# Altium schematic symbol library Microchip Interface.SchLib: 329 symbols (part 3 of 10)
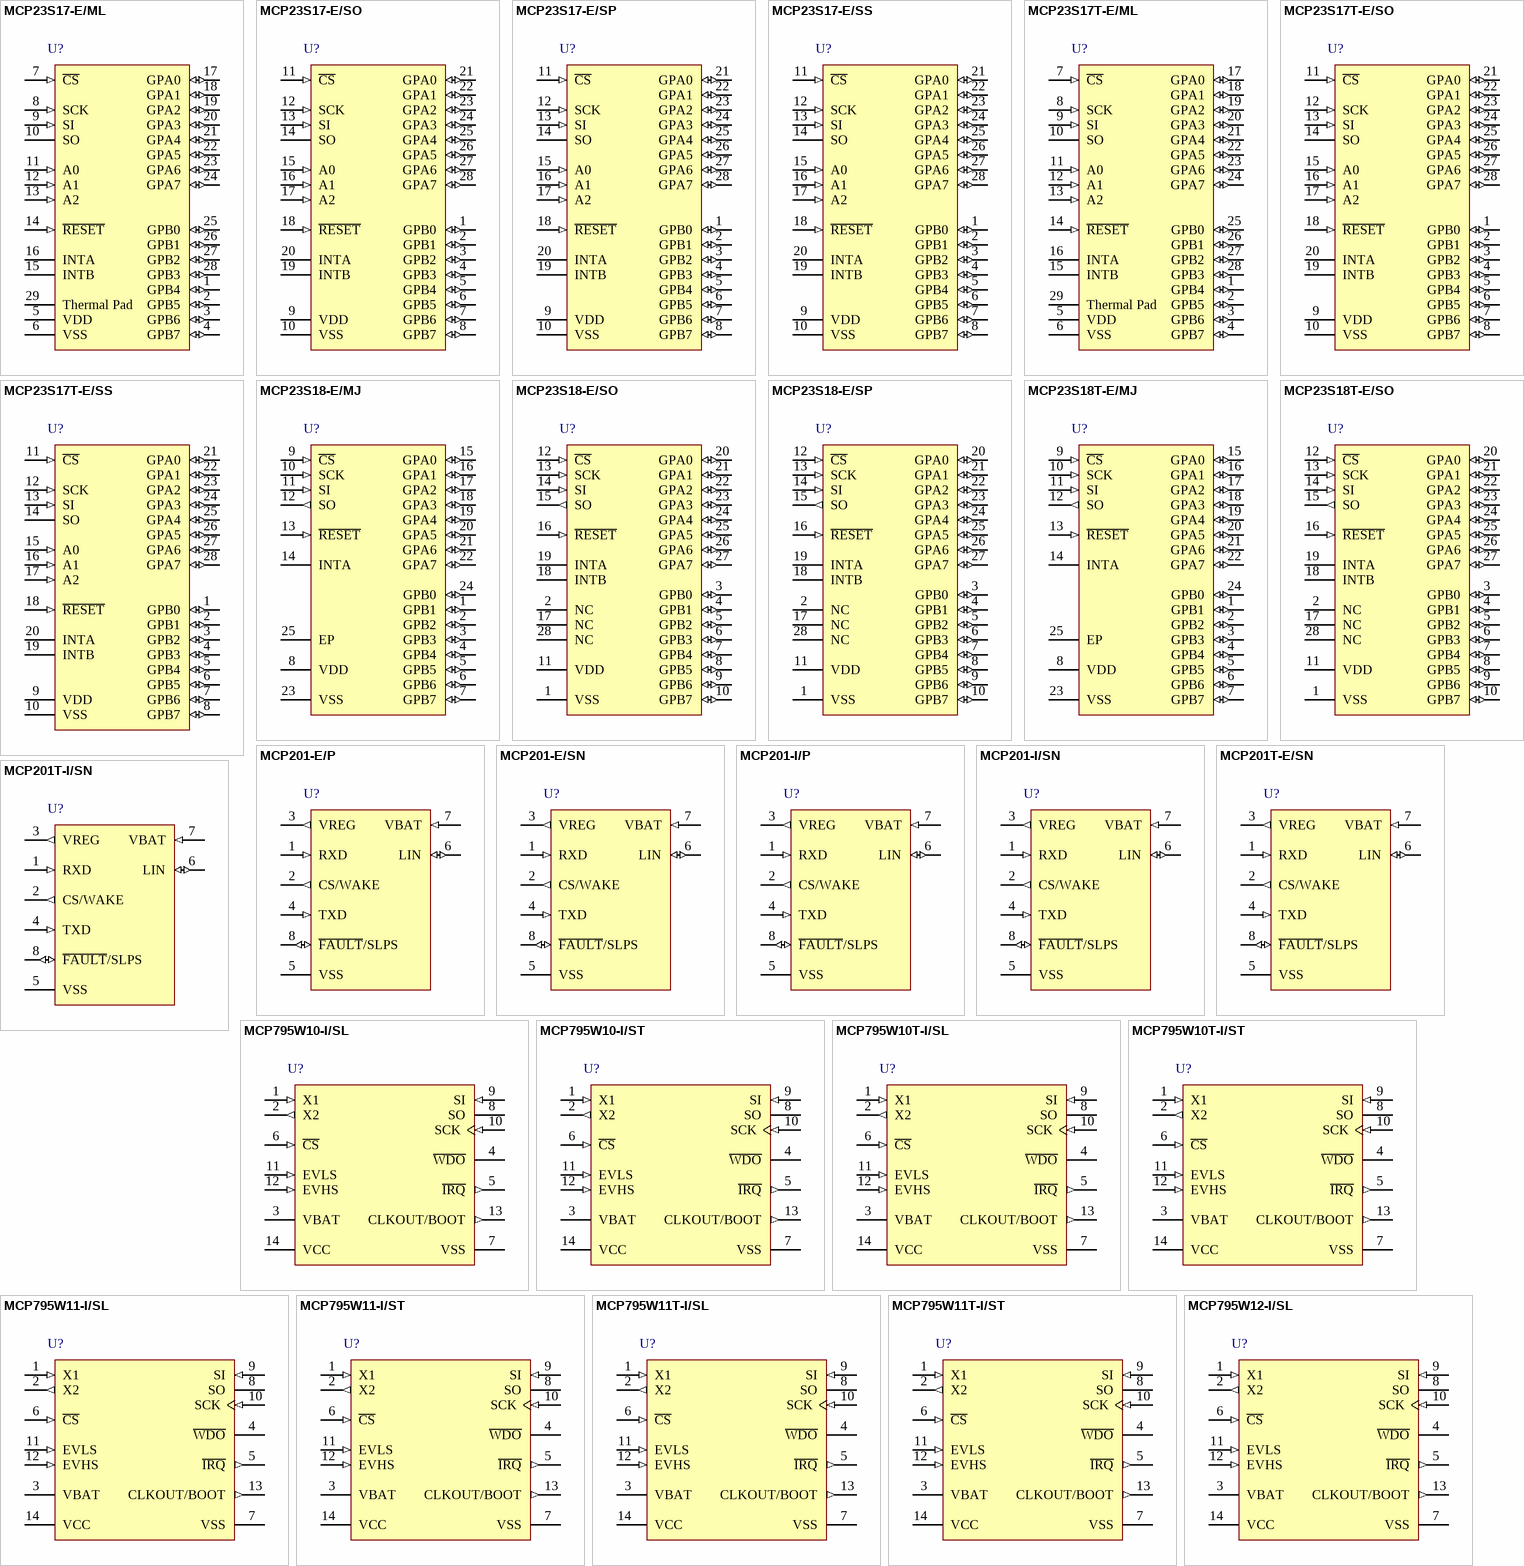
[diagram p15: symbols MCP23S17-E/ML to MCP795W12-I/SL]

## MCP795W11-I/ST
designator U?
SPI Real-Time Clock Calendar with Enhanced Features and Battery Switchover, 14-Pin TSSOP, Industrial Temperature; Manufacturer: Microchip; PartNumber: MCP795W11-I/ST; DatasheetVersion: revA, Nov-2011; PackageVersion: revBB, Aug-2009; PackageReference: TSSOP-ST14; PackageDescription: 14-Lead Plastic Thin Shrink Small Outline (ST) - 4.4mm Body [TSSOP]; Supplier 1: Digi-Key; Supplier Part Number 1: MCP795W11-I/ST-ND; Supplier 2: Mouser; Supplier Part Number 2: 579-MCP795W11-I/ST; Mounting Technology: Surface Mount; ComponentLink1Description: Manufacturer URL; ComponentLink1URL: http://www.microchip.com/; ComponentLink2Description: Datasheet; ComponentLink2URL: http://ww1.microchip.com/downloads/en/DeviceDoc/22280A.pdf; ComponentLink3Description: Package Specification; ComponentLink3URL: http://www.microchip.com/stellent/groups/techpub_sg/documents/packagingspec/en012702.pdf
footprint TSSOP-ST14_N (TSOP, 14-Leads, Body 5x4.4mm, Pitch 0.65mm, IPC Medium Density)
footprint TSSOP-ST14_L (TSOP, 14-Leads, Body 5x4.4mm, Pitch 0.65mm, IPC High Density)
footprint TSSOP-ST14_M (TSOP, 14-Leads, Body 5x4.4mm, Pitch 0.65mm, IPC Low Density)
pins: 1 X1 (in), 2 X2 (out), 3 VBAT (power), 4 ~{WDO} (oc), 5 ~{IRQ} (out), 6 ~{CS} (in), 7 VSS (power), 8 SO (hiz), 9 SI (in), 10 SCK (in), 11 EVLS (in), 12 EVHS (in), 13 CLKOUT/BOOT (out), 14 VCC (power)

## MCP795W11T-I/SL
designator U?
SPI Real-Time Clock Calendar with Enhanced Features and Battery Switchover, 14-Pin SOIC, Industrial Temperature, Tape and Reel; Manufacturer: Microchip; PartNumber: MCP795W11T-I/SL; DatasheetVersion: revA, Nov-2011; PackageVersion: revBB, Aug-2009; PackageReference: SOIC-SL14; PackageDescription: 14-Lead Plastic Small Outline (SL) - Narrow, 3.90mm Body [SOIC]; Supplier 1: Digi-Key; Supplier Part Number 1: MCP795W11T-I/SL-ND; Supplier 2: Mouser; Supplier Part Number 2: 579-MCP795W11T-I/SL; Mounting Technology: Surface Mount; Code_JEDEC: MS-012-AB; Code_IPC: SOIC127P600-14; ComponentLink1Description: Manufacturer URL; ComponentLink1URL: http://www.microchip.com/; ComponentLink2Description: Datasheet; ComponentLink2URL: http://ww1.microchip.com/downloads/en/DeviceDoc/22280A.pdf; ComponentLink3Description: Package Specification; ComponentLink3URL: http://www.microchip.com/stellent/groups/techpub_sg/documents/packagingspec/en012702.pdf
footprint SOIC-SL14_N (SOIC, 14-Leads, Body 8.7x3.9mm, Pitch 1.27mm, IPC Medium Density)
footprint SOIC-SL14_L (SOIC, 14-Leads, Body 8.7x3.9mm, Pitch 1.27mm, IPC High Density)
footprint SOIC-SL14_M (SOIC, 14-Leads, Body 8.7x3.9mm, Pitch 1.27mm, IPC Low Density)
pins: 1 X1 (in), 2 X2 (out), 3 VBAT (power), 4 ~{WDO} (oc), 5 ~{IRQ} (out), 6 ~{CS} (in), 7 VSS (power), 8 SO (hiz), 9 SI (in), 10 SCK (in), 11 EVLS (in), 12 EVHS (in), 13 CLKOUT/BOOT (out), 14 VCC (power)

## MCP795W11T-I/ST
designator U?
SPI Real-Time Clock Calendar with Enhanced Features and Battery Switchover, 14-Pin TSSOP, Industrial Temperature, Tape and Reel; Manufacturer: Microchip; PartNumber: MCP795W11T-I/ST; DatasheetVersion: revA, Nov-2011; PackageVersion: revBB, Aug-2009; PackageReference: TSSOP-ST14; PackageDescription: 14-Lead Plastic Thin Shrink Small Outline (ST) - 4.4mm Body [TSSOP]; Supplier 1: Digi-Key; Supplier Part Number 1: MCP795W11T-I/ST-ND; Supplier 2: Mouser; Supplier Part Number 2: 579-MCP795W11T-I/ST; Mounting Technology: Surface Mount; ComponentLink1Description: Manufacturer URL; ComponentLink1URL: http://www.microchip.com/; ComponentLink2Description: Datasheet; ComponentLink2URL: http://ww1.microchip.com/downloads/en/DeviceDoc/22280A.pdf; ComponentLink3Description: Package Specification; ComponentLink3URL: http://www.microchip.com/stellent/groups/techpub_sg/documents/packagingspec/en012702.pdf
footprint TSSOP-ST14_N (TSOP, 14-Leads, Body 5x4.4mm, Pitch 0.65mm, IPC Medium Density)
footprint TSSOP-ST14_L (TSOP, 14-Leads, Body 5x4.4mm, Pitch 0.65mm, IPC High Density)
footprint TSSOP-ST14_M (TSOP, 14-Leads, Body 5x4.4mm, Pitch 0.65mm, IPC Low Density)
pins: 1 X1 (in), 2 X2 (out), 3 VBAT (power), 4 ~{WDO} (oc), 5 ~{IRQ} (out), 6 ~{CS} (in), 7 VSS (power), 8 SO (hiz), 9 SI (in), 10 SCK (in), 11 EVLS (in), 12 EVHS (in), 13 CLKOUT/BOOT (out), 14 VCC (power)

## MCP795W12-I/SL
designator U?
SPI Real-Time Clock Calendar with Enhanced Features and Battery Switchover, 14-Pin SOIC, Industrial Temperature; Manufacturer: Microchip; PartNumber: MCP795W12-I/SL; DatasheetVersion: revA, Nov-2011; PackageVersion: revBB, Aug-2009; PackageReference: SOIC-SL14; PackageDescription: 14-Lead Plastic Small Outline (SL) - Narrow, 3.90mm Body [SOIC]; Supplier 1: Digi-Key; Supplier Part Number 1: MCP795W12-I/SL-ND; Supplier 2: Newark; Supplier Part Number 2: 47T5330; Supplier 3: Mouser; Supplier Part Number 3: 579-MCP795W12-I/SL; Mounting Technology: Surface Mount; Code_JEDEC: MS-012-AB; Code_IPC: SOIC127P600-14; ComponentLink1Description: Manufacturer URL; ComponentLink1URL: http://www.microchip.com/; ComponentLink2Description: Datasheet; ComponentLink2URL: http://ww1.microchip.com/downloads/en/DeviceDoc/22280A.pdf; ComponentLink3Description: Package Specification; ComponentLink3URL: http://www.microchip.com/stellent/groups/techpub_sg/documents/packagingspec/en012702.pdf
footprint SOIC-SL14_N (SOIC, 14-Leads, Body 8.7x3.9mm, Pitch 1.27mm, IPC Medium Density)
footprint SOIC-SL14_L (SOIC, 14-Leads, Body 8.7x3.9mm, Pitch 1.27mm, IPC High Density)
footprint SOIC-SL14_M (SOIC, 14-Leads, Body 8.7x3.9mm, Pitch 1.27mm, IPC Low Density)
pins: 1 X1 (in), 2 X2 (out), 3 VBAT (power), 4 ~{WDO} (oc), 5 ~{IRQ} (out), 6 ~{CS} (in), 7 VSS (power), 8 SO (hiz), 9 SI (in), 10 SCK (in), 11 EVLS (in), 12 EVHS (in), 13 CLKOUT/BOOT (out), 14 VCC (power)

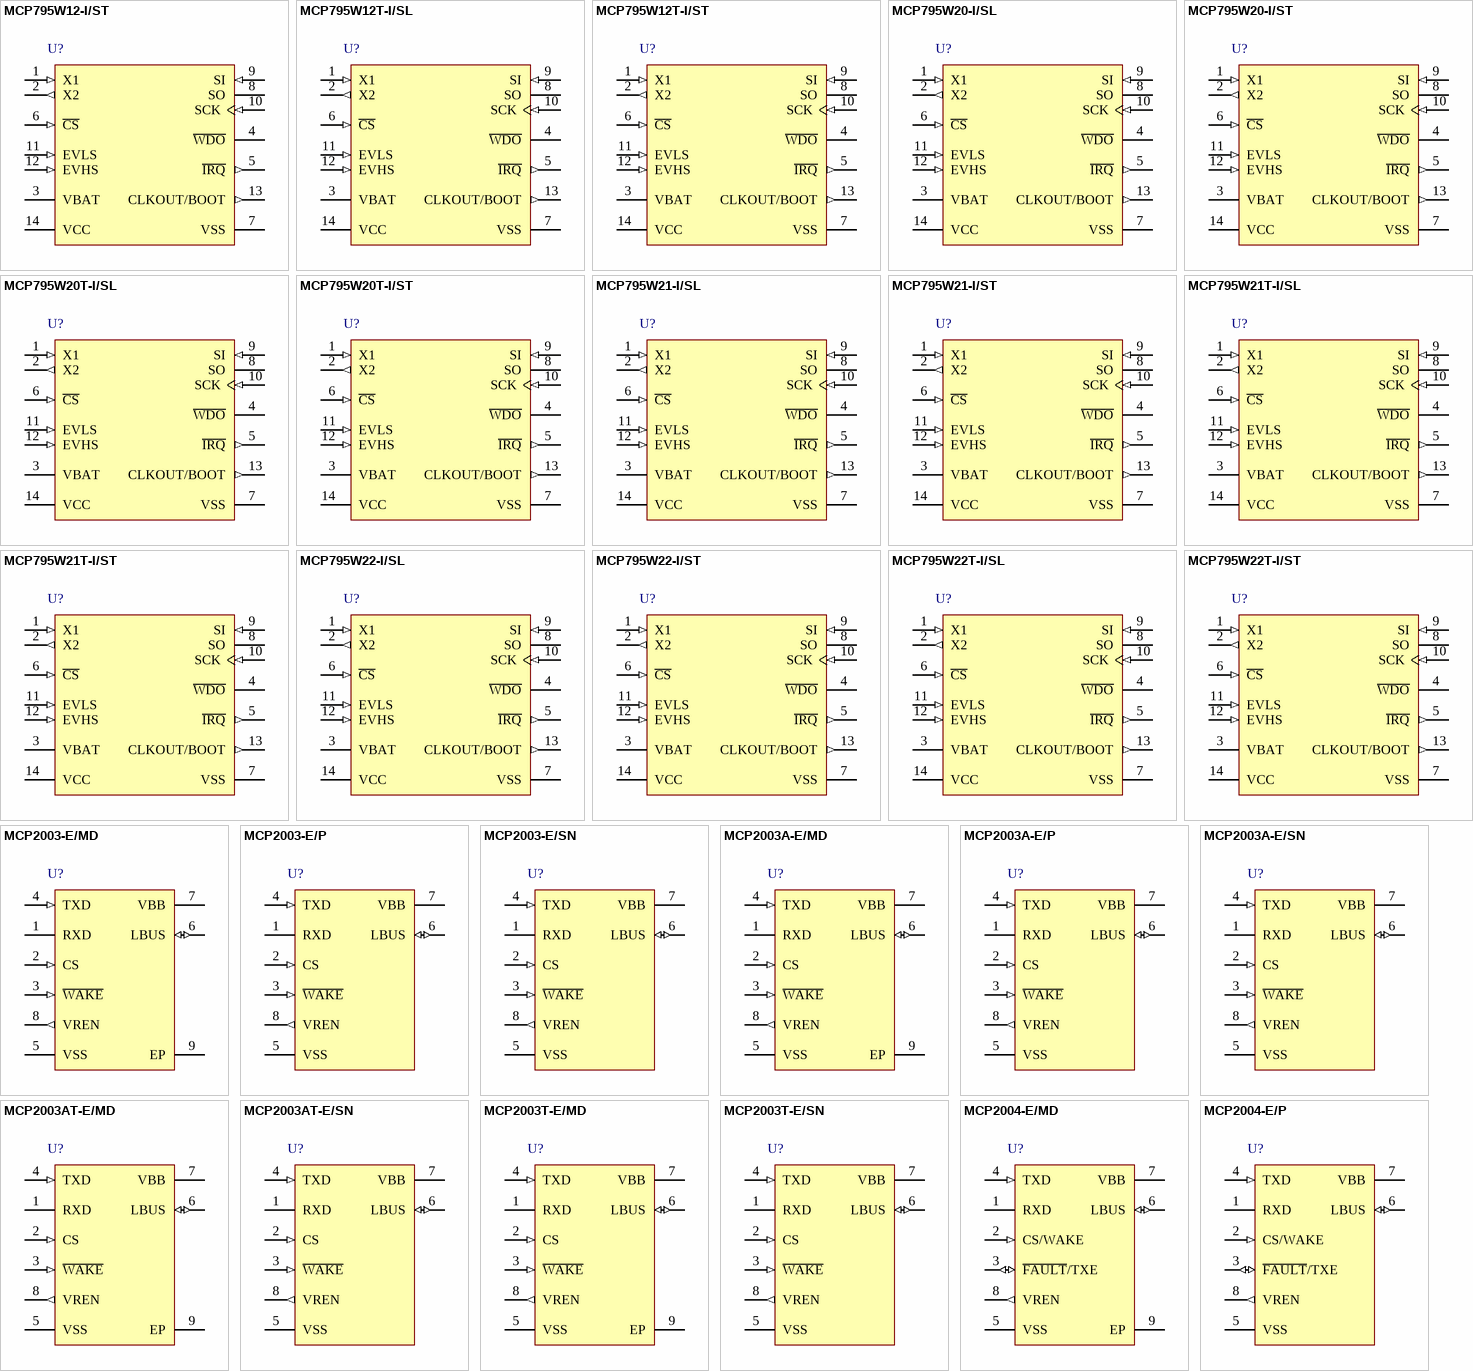
[diagram p4: symbols MCP795W12-I/ST to MCP2004-E/P]

## MCP795W12-I/ST
designator U?
SPI Real-Time Clock Calendar with Enhanced Features and Battery Switchover, 14-Pin TSSOP, Industrial Temperature; Manufacturer: Microchip; PartNumber: MCP795W12-I/ST; DatasheetVersion: revA, Nov-2011; PackageVersion: revBB, Aug-2009; PackageReference: TSSOP-ST14; PackageDescription: 14-Lead Plastic Thin Shrink Small Outline (ST) - 4.4mm Body [TSSOP]; Supplier 1: Digi-Key; Supplier Part Number 1: MCP795W12-I/ST-ND; Supplier 2: Mouser; Supplier Part Number 2: 579-MCP795W12-I/ST; Mounting Technology: Surface Mount; ComponentLink1Description: Manufacturer URL; ComponentLink1URL: http://www.microchip.com/; ComponentLink2Description: Datasheet; ComponentLink2URL: http://ww1.microchip.com/downloads/en/DeviceDoc/22280A.pdf; ComponentLink3Description: Package Specification; ComponentLink3URL: http://www.microchip.com/stellent/groups/techpub_sg/documents/packagingspec/en012702.pdf
footprint TSSOP-ST14_N (TSOP, 14-Leads, Body 5x4.4mm, Pitch 0.65mm, IPC Medium Density)
footprint TSSOP-ST14_L (TSOP, 14-Leads, Body 5x4.4mm, Pitch 0.65mm, IPC High Density)
footprint TSSOP-ST14_M (TSOP, 14-Leads, Body 5x4.4mm, Pitch 0.65mm, IPC Low Density)
pins: 1 X1 (in), 2 X2 (out), 3 VBAT (power), 4 ~{WDO} (oc), 5 ~{IRQ} (out), 6 ~{CS} (in), 7 VSS (power), 8 SO (hiz), 9 SI (in), 10 SCK (in), 11 EVLS (in), 12 EVHS (in), 13 CLKOUT/BOOT (out), 14 VCC (power)

## MCP795W12T-I/SL
designator U?
SPI Real-Time Clock Calendar with Enhanced Features and Battery Switchover, 14-Pin SOIC, Industrial Temperature, Tape and Reel; Manufacturer: Microchip; PartNumber: MCP795W12T-I/SL; DatasheetVersion: revA, Nov-2011; PackageVersion: revBB, Aug-2009; PackageReference: SOIC-SL14; PackageDescription: 14-Lead Plastic Small Outline (SL) - Narrow, 3.90mm Body [SOIC]; Supplier 1: Digi-Key; Supplier Part Number 1: MCP795W12T-I/SL-ND; Supplier 2: Mouser; Supplier Part Number 2: 579-MCP795W12T-I/SL; Mounting Technology: Surface Mount; Code_JEDEC: MS-012-AB; Code_IPC: SOIC127P600-14; ComponentLink1Description: Manufacturer URL; ComponentLink1URL: http://www.microchip.com/; ComponentLink2Description: Datasheet; ComponentLink2URL: http://ww1.microchip.com/downloads/en/DeviceDoc/22280A.pdf; ComponentLink3Description: Package Specification; ComponentLink3URL: http://www.microchip.com/stellent/groups/techpub_sg/documents/packagingspec/en012702.pdf
footprint SOIC-SL14_N (SOIC, 14-Leads, Body 8.7x3.9mm, Pitch 1.27mm, IPC Medium Density)
footprint SOIC-SL14_L (SOIC, 14-Leads, Body 8.7x3.9mm, Pitch 1.27mm, IPC High Density)
footprint SOIC-SL14_M (SOIC, 14-Leads, Body 8.7x3.9mm, Pitch 1.27mm, IPC Low Density)
pins: 1 X1 (in), 2 X2 (out), 3 VBAT (power), 4 ~{WDO} (oc), 5 ~{IRQ} (out), 6 ~{CS} (in), 7 VSS (power), 8 SO (hiz), 9 SI (in), 10 SCK (in), 11 EVLS (in), 12 EVHS (in), 13 CLKOUT/BOOT (out), 14 VCC (power)

## MCP795W12T-I/ST
designator U?
SPI Real-Time Clock Calendar with Enhanced Features and Battery Switchover, 14-Pin TSSOP, Industrial Temperature, Tape and Reel; Manufacturer: Microchip; PartNumber: MCP795W12T-I/ST; DatasheetVersion: revA, Nov-2011; PackageVersion: revBB, Aug-2009; PackageReference: TSSOP-ST14; PackageDescription: 14-Lead Plastic Thin Shrink Small Outline (ST) - 4.4mm Body [TSSOP]; Supplier 1: Digi-Key; Supplier Part Number 1: MCP795W12T-I/ST-ND; Supplier 2: Mouser; Supplier Part Number 2: 579-MCP795W12T-I/ST; Mounting Technology: Surface Mount; ComponentLink1Description: Manufacturer URL; ComponentLink1URL: http://www.microchip.com/; ComponentLink2Description: Datasheet; ComponentLink2URL: http://ww1.microchip.com/downloads/en/DeviceDoc/22280A.pdf; ComponentLink3Description: Package Specification; ComponentLink3URL: http://www.microchip.com/stellent/groups/techpub_sg/documents/packagingspec/en012702.pdf
footprint TSSOP-ST14_N (TSOP, 14-Leads, Body 5x4.4mm, Pitch 0.65mm, IPC Medium Density)
footprint TSSOP-ST14_L (TSOP, 14-Leads, Body 5x4.4mm, Pitch 0.65mm, IPC High Density)
footprint TSSOP-ST14_M (TSOP, 14-Leads, Body 5x4.4mm, Pitch 0.65mm, IPC Low Density)
pins: 1 X1 (in), 2 X2 (out), 3 VBAT (power), 4 ~{WDO} (oc), 5 ~{IRQ} (out), 6 ~{CS} (in), 7 VSS (power), 8 SO (hiz), 9 SI (in), 10 SCK (in), 11 EVLS (in), 12 EVHS (in), 13 CLKOUT/BOOT (out), 14 VCC (power)

## MCP795W20-I/SL
designator U?
SPI Real-Time Clock Calendar with Enhanced Features and Battery Switchover, 14-Pin SOIC, Industrial Temperature; Manufacturer: Microchip; PartNumber: MCP795W20-I/SL; DatasheetVersion: revA, Nov-2011; PackageVersion: revBB, Aug-2009; PackageReference: SOIC-SL14; PackageDescription: 14-Lead Plastic Small Outline (SL) - Narrow, 3.90mm Body [SOIC]; Supplier 1: Digi-Key; Supplier Part Number 1: MCP795W20-I/SL-ND; Supplier 2: Mouser; Supplier Part Number 2: 579-MCP795W20-I/SL; Mounting Technology: Surface Mount; Code_JEDEC: MS-012-AB; Code_IPC: SOIC127P600-14; ComponentLink1Description: Manufacturer URL; ComponentLink1URL: http://www.microchip.com/; ComponentLink2Description: Datasheet; ComponentLink2URL: http://ww1.microchip.com/downloads/en/DeviceDoc/22280A.pdf; ComponentLink3Description: Package Specification; ComponentLink3URL: http://www.microchip.com/stellent/groups/techpub_sg/documents/packagingspec/en012702.pdf
footprint SOIC-SL14_N (SOIC, 14-Leads, Body 8.7x3.9mm, Pitch 1.27mm, IPC Medium Density)
footprint SOIC-SL14_L (SOIC, 14-Leads, Body 8.7x3.9mm, Pitch 1.27mm, IPC High Density)
footprint SOIC-SL14_M (SOIC, 14-Leads, Body 8.7x3.9mm, Pitch 1.27mm, IPC Low Density)
pins: 1 X1 (in), 2 X2 (out), 3 VBAT (power), 4 ~{WDO} (oc), 5 ~{IRQ} (out), 6 ~{CS} (in), 7 VSS (power), 8 SO (hiz), 9 SI (in), 10 SCK (in), 11 EVLS (in), 12 EVHS (in), 13 CLKOUT/BOOT (out), 14 VCC (power)

## MCP795W20-I/ST
designator U?
SPI Real-Time Clock Calendar with Enhanced Features and Battery Switchover, 14-Pin TSSOP, Industrial Temperature; Manufacturer: Microchip; PartNumber: MCP795W20-I/ST; DatasheetVersion: revA, Nov-2011; PackageVersion: revBB, Aug-2009; PackageReference: TSSOP-ST14; PackageDescription: 14-Lead Plastic Thin Shrink Small Outline (ST) - 4.4mm Body [TSSOP]; Supplier 1: Digi-Key; Supplier Part Number 1: MCP795W20-I/ST-ND; Supplier 2: Newark; Supplier Part Number 2: 47T5335; Supplier 3: Mouser; Supplier Part Number 3: 579-MCP795W20-I/ST; Mounting Technology: Surface Mount; ComponentLink1Description: Manufacturer URL; ComponentLink1URL: http://www.microchip.com/; ComponentLink2Description: Datasheet; ComponentLink2URL: http://ww1.microchip.com/downloads/en/DeviceDoc/22280A.pdf; ComponentLink3Description: Package Specification; ComponentLink3URL: http://www.microchip.com/stellent/groups/techpub_sg/documents/packagingspec/en012702.pdf
footprint TSSOP-ST14_N (TSOP, 14-Leads, Body 5x4.4mm, Pitch 0.65mm, IPC Medium Density)
footprint TSSOP-ST14_L (TSOP, 14-Leads, Body 5x4.4mm, Pitch 0.65mm, IPC High Density)
footprint TSSOP-ST14_M (TSOP, 14-Leads, Body 5x4.4mm, Pitch 0.65mm, IPC Low Density)
pins: 1 X1 (in), 2 X2 (out), 3 VBAT (power), 4 ~{WDO} (oc), 5 ~{IRQ} (out), 6 ~{CS} (in), 7 VSS (power), 8 SO (hiz), 9 SI (in), 10 SCK (in), 11 EVLS (in), 12 EVHS (in), 13 CLKOUT/BOOT (out), 14 VCC (power)

## MCP795W20T-I/SL
designator U?
SPI Real-Time Clock Calendar with Enhanced Features and Battery Switchover, 14-Pin SOIC, Industrial Temperature, Tape and Reel; Manufacturer: Microchip; PartNumber: MCP795W20T-I/SL; DatasheetVersion: revA, Nov-2011; PackageVersion: revBB, Aug-2009; PackageReference: SOIC-SL14; PackageDescription: 14-Lead Plastic Small Outline (SL) - Narrow, 3.90mm Body [SOIC]; Supplier 1: Digi-Key; Supplier Part Number 1: MCP795W20T-I/SL-ND; Supplier 2: Mouser; Supplier Part Number 2: 579-MCP795W20T-I/SL; Mounting Technology: Surface Mount; Code_JEDEC: MS-012-AB; Code_IPC: SOIC127P600-14; ComponentLink1Description: Manufacturer URL; ComponentLink1URL: http://www.microchip.com/; ComponentLink2Description: Datasheet; ComponentLink2URL: http://ww1.microchip.com/downloads/en/DeviceDoc/22280A.pdf; ComponentLink3Description: Package Specification; ComponentLink3URL: http://www.microchip.com/stellent/groups/techpub_sg/documents/packagingspec/en012702.pdf
footprint SOIC-SL14_N (SOIC, 14-Leads, Body 8.7x3.9mm, Pitch 1.27mm, IPC Medium Density)
footprint SOIC-SL14_L (SOIC, 14-Leads, Body 8.7x3.9mm, Pitch 1.27mm, IPC High Density)
footprint SOIC-SL14_M (SOIC, 14-Leads, Body 8.7x3.9mm, Pitch 1.27mm, IPC Low Density)
pins: 1 X1 (in), 2 X2 (out), 3 VBAT (power), 4 ~{WDO} (oc), 5 ~{IRQ} (out), 6 ~{CS} (in), 7 VSS (power), 8 SO (hiz), 9 SI (in), 10 SCK (in), 11 EVLS (in), 12 EVHS (in), 13 CLKOUT/BOOT (out), 14 VCC (power)

## MCP795W20T-I/ST
designator U?
SPI Real-Time Clock Calendar with Enhanced Features and Battery Switchover, 14-Pin TSSOP, Industrial Temperature, Tape and Reel; Manufacturer: Microchip; PartNumber: MCP795W20T-I/ST; DatasheetVersion: revA, Nov-2011; PackageVersion: revBB, Aug-2009; PackageReference: TSSOP-ST14; PackageDescription: 14-Lead Plastic Thin Shrink Small Outline (ST) - 4.4mm Body [TSSOP]; Supplier 1: Digi-Key; Supplier Part Number 1: MCP795W20T-I/ST-ND; Supplier 2: Mouser; Supplier Part Number 2: 579-MCP795W20T-I/ST; Mounting Technology: Surface Mount; ComponentLink1Description: Manufacturer URL; ComponentLink1URL: http://www.microchip.com/; ComponentLink2Description: Datasheet; ComponentLink2URL: http://ww1.microchip.com/downloads/en/DeviceDoc/22280A.pdf; ComponentLink3Description: Package Specification; ComponentLink3URL: http://www.microchip.com/stellent/groups/techpub_sg/documents/packagingspec/en012702.pdf
footprint TSSOP-ST14_N (TSOP, 14-Leads, Body 5x4.4mm, Pitch 0.65mm, IPC Medium Density)
footprint TSSOP-ST14_L (TSOP, 14-Leads, Body 5x4.4mm, Pitch 0.65mm, IPC High Density)
footprint TSSOP-ST14_M (TSOP, 14-Leads, Body 5x4.4mm, Pitch 0.65mm, IPC Low Density)
pins: 1 X1 (in), 2 X2 (out), 3 VBAT (power), 4 ~{WDO} (oc), 5 ~{IRQ} (out), 6 ~{CS} (in), 7 VSS (power), 8 SO (hiz), 9 SI (in), 10 SCK (in), 11 EVLS (in), 12 EVHS (in), 13 CLKOUT/BOOT (out), 14 VCC (power)

## MCP795W21-I/SL
designator U?
SPI Real-Time Clock Calendar with Enhanced Features and Battery Switchover, 14-Pin SOIC, Industrial Temperature; Manufacturer: Microchip; PartNumber: MCP795W21-I/SL; DatasheetVersion: revA, Nov-2011; PackageVersion: revBB, Aug-2009; PackageReference: SOIC-SL14; PackageDescription: 14-Lead Plastic Small Outline (SL) - Narrow, 3.90mm Body [SOIC]; Supplier 1: Digi-Key; Supplier Part Number 1: MCP795W21-I/SL-ND; Supplier 2: Mouser; Supplier Part Number 2: 579-MCP795W21-I/SL; Mounting Technology: Surface Mount; Code_JEDEC: MS-012-AB; Code_IPC: SOIC127P600-14; ComponentLink1Description: Manufacturer URL; ComponentLink1URL: http://www.microchip.com/; ComponentLink2Description: Datasheet; ComponentLink2URL: http://ww1.microchip.com/downloads/en/DeviceDoc/22280A.pdf; ComponentLink3Description: Package Specification; ComponentLink3URL: http://www.microchip.com/stellent/groups/techpub_sg/documents/packagingspec/en012702.pdf
footprint SOIC-SL14_N (SOIC, 14-Leads, Body 8.7x3.9mm, Pitch 1.27mm, IPC Medium Density)
footprint SOIC-SL14_L (SOIC, 14-Leads, Body 8.7x3.9mm, Pitch 1.27mm, IPC High Density)
footprint SOIC-SL14_M (SOIC, 14-Leads, Body 8.7x3.9mm, Pitch 1.27mm, IPC Low Density)
pins: 1 X1 (in), 2 X2 (out), 3 VBAT (power), 4 ~{WDO} (oc), 5 ~{IRQ} (out), 6 ~{CS} (in), 7 VSS (power), 8 SO (hiz), 9 SI (in), 10 SCK (in), 11 EVLS (in), 12 EVHS (in), 13 CLKOUT/BOOT (out), 14 VCC (power)

## MCP795W21-I/ST
designator U?
SPI Real-Time Clock Calendar with Enhanced Features and Battery Switchover, 14-Pin TSSOP, Industrial Temperature; Manufacturer: Microchip; PartNumber: MCP795W21-I/ST; DatasheetVersion: revA, Nov-2011; PackageVersion: revBB, Aug-2009; PackageReference: TSSOP-ST14; PackageDescription: 14-Lead Plastic Thin Shrink Small Outline (ST) - 4.4mm Body [TSSOP]; Supplier 1: Digi-Key; Supplier Part Number 1: MCP795W21-I/ST-ND; Supplier 2: Mouser; Supplier Part Number 2: 579-MCP795W21-I/ST; Mounting Technology: Surface Mount; ComponentLink1Description: Manufacturer URL; ComponentLink1URL: http://www.microchip.com/; ComponentLink2Description: Datasheet; ComponentLink2URL: http://ww1.microchip.com/downloads/en/DeviceDoc/22280A.pdf; ComponentLink3Description: Package Specification; ComponentLink3URL: http://www.microchip.com/stellent/groups/techpub_sg/documents/packagingspec/en012702.pdf
footprint TSSOP-ST14_N (TSOP, 14-Leads, Body 5x4.4mm, Pitch 0.65mm, IPC Medium Density)
footprint TSSOP-ST14_L (TSOP, 14-Leads, Body 5x4.4mm, Pitch 0.65mm, IPC High Density)
footprint TSSOP-ST14_M (TSOP, 14-Leads, Body 5x4.4mm, Pitch 0.65mm, IPC Low Density)
pins: 1 X1 (in), 2 X2 (out), 3 VBAT (power), 4 ~{WDO} (oc), 5 ~{IRQ} (out), 6 ~{CS} (in), 7 VSS (power), 8 SO (hiz), 9 SI (in), 10 SCK (in), 11 EVLS (in), 12 EVHS (in), 13 CLKOUT/BOOT (out), 14 VCC (power)

## MCP795W21T-I/SL
designator U?
SPI Real-Time Clock Calendar with Enhanced Features and Battery Switchover, 14-Pin SOIC, Industrial Temperature, Tape and Reel; Manufacturer: Microchip; PartNumber: MCP795W21T-I/SL; DatasheetVersion: revA, Nov-2011; PackageVersion: revBB, Aug-2009; PackageReference: SOIC-SL14; PackageDescription: 14-Lead Plastic Small Outline (SL) - Narrow, 3.90mm Body [SOIC]; Supplier 1: Digi-Key; Supplier Part Number 1: MCP795W21T-I/SL-ND; Supplier 2: Mouser; Supplier Part Number 2: 579-MCP795W21T-I/SL; Mounting Technology: Surface Mount; Code_JEDEC: MS-012-AB; Code_IPC: SOIC127P600-14; ComponentLink1Description: Manufacturer URL; ComponentLink1URL: http://www.microchip.com/; ComponentLink2Description: Datasheet; ComponentLink2URL: http://ww1.microchip.com/downloads/en/DeviceDoc/22280A.pdf; ComponentLink3Description: Package Specification; ComponentLink3URL: http://www.microchip.com/stellent/groups/techpub_sg/documents/packagingspec/en012702.pdf
footprint SOIC-SL14_N (SOIC, 14-Leads, Body 8.7x3.9mm, Pitch 1.27mm, IPC Medium Density)
footprint SOIC-SL14_L (SOIC, 14-Leads, Body 8.7x3.9mm, Pitch 1.27mm, IPC High Density)
footprint SOIC-SL14_M (SOIC, 14-Leads, Body 8.7x3.9mm, Pitch 1.27mm, IPC Low Density)
pins: 1 X1 (in), 2 X2 (out), 3 VBAT (power), 4 ~{WDO} (oc), 5 ~{IRQ} (out), 6 ~{CS} (in), 7 VSS (power), 8 SO (hiz), 9 SI (in), 10 SCK (in), 11 EVLS (in), 12 EVHS (in), 13 CLKOUT/BOOT (out), 14 VCC (power)

## MCP795W21T-I/ST
designator U?
SPI Real-Time Clock Calendar with Enhanced Features and Battery Switchover, 14-Pin TSSOP, Industrial Temperature, Tape and Reel; Manufacturer: Microchip; PartNumber: MCP795W21T-I/ST; DatasheetVersion: revA, Nov-2011; PackageVersion: revBB, Aug-2009; PackageReference: TSSOP-ST14; PackageDescription: 14-Lead Plastic Thin Shrink Small Outline (ST) - 4.4mm Body [TSSOP]; Supplier 1: Digi-Key; Supplier Part Number 1: MCP795W21T-I/ST-ND; Supplier 2: Mouser; Supplier Part Number 2: 579-MCP795W21T-I/ST; Mounting Technology: Surface Mount; ComponentLink1Description: Manufacturer URL; ComponentLink1URL: http://www.microchip.com/; ComponentLink2Description: Datasheet; ComponentLink2URL: http://ww1.microchip.com/downloads/en/DeviceDoc/22280A.pdf; ComponentLink3Description: Package Specification; ComponentLink3URL: http://www.microchip.com/stellent/groups/techpub_sg/documents/packagingspec/en012702.pdf
footprint TSSOP-ST14_N (TSOP, 14-Leads, Body 5x4.4mm, Pitch 0.65mm, IPC Medium Density)
footprint TSSOP-ST14_L (TSOP, 14-Leads, Body 5x4.4mm, Pitch 0.65mm, IPC High Density)
footprint TSSOP-ST14_M (TSOP, 14-Leads, Body 5x4.4mm, Pitch 0.65mm, IPC Low Density)
pins: 1 X1 (in), 2 X2 (out), 3 VBAT (power), 4 ~{WDO} (oc), 5 ~{IRQ} (out), 6 ~{CS} (in), 7 VSS (power), 8 SO (hiz), 9 SI (in), 10 SCK (in), 11 EVLS (in), 12 EVHS (in), 13 CLKOUT/BOOT (out), 14 VCC (power)

## MCP795W22-I/SL
designator U?
SPI Real-Time Clock Calendar with Enhanced Features and Battery Switchover, 14-Pin SOIC, Industrial Temperature; Manufacturer: Microchip; PartNumber: MCP795W22-I/SL; DatasheetVersion: revA, Nov-2011; PackageVersion: revBB, Aug-2009; PackageReference: SOIC-SL14; PackageDescription: 14-Lead Plastic Small Outline (SL) - Narrow, 3.90mm Body [SOIC]; Supplier 1: Digi-Key; Supplier Part Number 1: MCP795W22-I/SL-ND; Supplier 2: Mouser; Supplier Part Number 2: 579-MCP795W22-I/SL; Mounting Technology: Surface Mount; Code_JEDEC: MS-012-AB; Code_IPC: SOIC127P600-14; ComponentLink1Description: Manufacturer URL; ComponentLink1URL: http://www.microchip.com/; ComponentLink2Description: Datasheet; ComponentLink2URL: http://ww1.microchip.com/downloads/en/DeviceDoc/22280A.pdf; ComponentLink3Description: Package Specification; ComponentLink3URL: http://www.microchip.com/stellent/groups/techpub_sg/documents/packagingspec/en012702.pdf
footprint SOIC-SL14_N (SOIC, 14-Leads, Body 8.7x3.9mm, Pitch 1.27mm, IPC Medium Density)
footprint SOIC-SL14_L (SOIC, 14-Leads, Body 8.7x3.9mm, Pitch 1.27mm, IPC High Density)
footprint SOIC-SL14_M (SOIC, 14-Leads, Body 8.7x3.9mm, Pitch 1.27mm, IPC Low Density)
pins: 1 X1 (in), 2 X2 (out), 3 VBAT (power), 4 ~{WDO} (oc), 5 ~{IRQ} (out), 6 ~{CS} (in), 7 VSS (power), 8 SO (hiz), 9 SI (in), 10 SCK (in), 11 EVLS (in), 12 EVHS (in), 13 CLKOUT/BOOT (out), 14 VCC (power)

## MCP795W22-I/ST
designator U?
SPI Real-Time Clock Calendar with Enhanced Features and Battery Switchover, 14-Pin TSSOP, Industrial Temperature; Manufacturer: Microchip; PartNumber: MCP795W22-I/ST; DatasheetVersion: revA, Nov-2011; PackageVersion: revBB, Aug-2009; PackageReference: TSSOP-ST14; PackageDescription: 14-Lead Plastic Thin Shrink Small Outline (ST) - 4.4mm Body [TSSOP]; Supplier 1: Digi-Key; Supplier Part Number 1: MCP795W22-I/ST-ND; Supplier 2: Mouser; Supplier Part Number 2: 579-MCP795W22-I/ST; Mounting Technology: Surface Mount; ComponentLink1Description: Manufacturer URL; ComponentLink1URL: http://www.microchip.com/; ComponentLink2Description: Datasheet; ComponentLink2URL: http://ww1.microchip.com/downloads/en/DeviceDoc/22280A.pdf; ComponentLink3Description: Package Specification; ComponentLink3URL: http://www.microchip.com/stellent/groups/techpub_sg/documents/packagingspec/en012702.pdf
footprint TSSOP-ST14_N (TSOP, 14-Leads, Body 5x4.4mm, Pitch 0.65mm, IPC Medium Density)
footprint TSSOP-ST14_L (TSOP, 14-Leads, Body 5x4.4mm, Pitch 0.65mm, IPC High Density)
footprint TSSOP-ST14_M (TSOP, 14-Leads, Body 5x4.4mm, Pitch 0.65mm, IPC Low Density)
pins: 1 X1 (in), 2 X2 (out), 3 VBAT (power), 4 ~{WDO} (oc), 5 ~{IRQ} (out), 6 ~{CS} (in), 7 VSS (power), 8 SO (hiz), 9 SI (in), 10 SCK (in), 11 EVLS (in), 12 EVHS (in), 13 CLKOUT/BOOT (out), 14 VCC (power)

## MCP795W22T-I/SL
designator U?
SPI Real-Time Clock Calendar with Enhanced Features and Battery Switchover, 14-Pin SOIC, Industrial Temperature, Tape and Reel; Manufacturer: Microchip; PartNumber: MCP795W22T-I/SL; DatasheetVersion: revA, Nov-2011; PackageVersion: revBB, Aug-2009; PackageReference: SOIC-SL14; PackageDescription: 14-Lead Plastic Small Outline (SL) - Narrow, 3.90mm Body [SOIC]; Supplier 1: Digi-Key; Supplier Part Number 1: MCP795W22T-I/SL-ND; Supplier 2: Mouser; Supplier Part Number 2: 579-MCP795W22T-I/SL; Mounting Technology: Surface Mount; Code_JEDEC: MS-012-AB; Code_IPC: SOIC127P600-14; ComponentLink1Description: Manufacturer URL; ComponentLink1URL: http://www.microchip.com/; ComponentLink2Description: Datasheet; ComponentLink2URL: http://ww1.microchip.com/downloads/en/DeviceDoc/22280A.pdf; ComponentLink3Description: Package Specification; ComponentLink3URL: http://www.microchip.com/stellent/groups/techpub_sg/documents/packagingspec/en012702.pdf
footprint SOIC-SL14_N (SOIC, 14-Leads, Body 8.7x3.9mm, Pitch 1.27mm, IPC Medium Density)
footprint SOIC-SL14_L (SOIC, 14-Leads, Body 8.7x3.9mm, Pitch 1.27mm, IPC High Density)
footprint SOIC-SL14_M (SOIC, 14-Leads, Body 8.7x3.9mm, Pitch 1.27mm, IPC Low Density)
pins: 1 X1 (in), 2 X2 (out), 3 VBAT (power), 4 ~{WDO} (oc), 5 ~{IRQ} (out), 6 ~{CS} (in), 7 VSS (power), 8 SO (hiz), 9 SI (in), 10 SCK (in), 11 EVLS (in), 12 EVHS (in), 13 CLKOUT/BOOT (out), 14 VCC (power)

## MCP795W22T-I/ST
designator U?
SPI Real-Time Clock Calendar with Enhanced Features and Battery Switchover, 14-Pin TSSOP, Industrial Temperature, Tape and Reel; Manufacturer: Microchip; PartNumber: MCP795W22T-I/ST; DatasheetVersion: revA, Nov-2011; PackageVersion: revBB, Aug-2009; PackageReference: TSSOP-ST14; PackageDescription: 14-Lead Plastic Thin Shrink Small Outline (ST) - 4.4mm Body [TSSOP]; Supplier 1: Digi-Key; Supplier Part Number 1: MCP795W22T-I/ST-ND; Supplier 2: Mouser; Supplier Part Number 2: 579-MCP795W22T-I/ST; Mounting Technology: Surface Mount; ComponentLink1Description: Manufacturer URL; ComponentLink1URL: http://www.microchip.com/; ComponentLink2Description: Datasheet; ComponentLink2URL: http://ww1.microchip.com/downloads/en/DeviceDoc/22280A.pdf; ComponentLink3Description: Package Specification; ComponentLink3URL: http://www.microchip.com/stellent/groups/techpub_sg/documents/packagingspec/en012702.pdf
footprint TSSOP-ST14_N (TSOP, 14-Leads, Body 5x4.4mm, Pitch 0.65mm, IPC Medium Density)
footprint TSSOP-ST14_L (TSOP, 14-Leads, Body 5x4.4mm, Pitch 0.65mm, IPC High Density)
footprint TSSOP-ST14_M (TSOP, 14-Leads, Body 5x4.4mm, Pitch 0.65mm, IPC Low Density)
pins: 1 X1 (in), 2 X2 (out), 3 VBAT (power), 4 ~{WDO} (oc), 5 ~{IRQ} (out), 6 ~{CS} (in), 7 VSS (power), 8 SO (hiz), 9 SI (in), 10 SCK (in), 11 EVLS (in), 12 EVHS (in), 13 CLKOUT/BOOT (out), 14 VCC (power)

## MCP2003-E/MD
designator U?
LIN J2602 Transceiver, 8-Pin DFN, Extended Temperature; Manufacturer: Microchip; PartNumber: MCP2003-E/MD; DatasheetVersion: revD, Dec-2011; PackageVersion: revBB, Aug-2009; PackageReference: DFN-MD8; PackageDescription: 8-Lead Plastic Dual Flat, No Lead Package (MD) - 4x4x0.9mm Body [DFN]; Supplier 1: Digi-Key; Supplier Part Number 1: MCP2003-E/MD-ND; Supplier 2: Farnell; Supplier Part Number 2: 1826238; Supplier 3: Newark; Supplier Part Number 3: 65R5491; Supplier 4: Mouser; Supplier Part Number 4: 579-MCP2003EMD; Mounting Technology: Surface Mount; ComponentLink1Description: Manufacturer URL; ComponentLink1URL: http://www.microchip.com/; ComponentLink2Description: Datasheet; ComponentLink2URL: http://ww1.microchip.com/downloads/en/DeviceDoc/22230D.pdf; ComponentLink3Description: Package Specification; ComponentLink3URL: http://www.microchip.com/stellent/groups/techpub_sg/documents/packagingspec/en012702.pdf
footprint DFN-MD8 (SON, 8-Leads, Body 4x4mm, Pitch 0.8mm, Microchip Recommended)
pins: 1 RXD (oc), 2 CS (in), 3 ~{WAKE} (in), 4 TXD (in), 5 VSS (power), 6 LBUS (io), 7 VBB (power), 8 VREN (out), 9 EP

## MCP2003-E/P
designator U?
LIN J2602 Transceiver, 8-Pin PDIP, Extended Temperature; Manufacturer: Microchip; PartNumber: MCP2003-E/P; DatasheetVersion: revD, Dec-2011; PackageVersion: revBB, Aug-2009; PackageReference: PDIP300-P8; PackageDescription: 8-Lead Plastic Dual In-Line (P) - 300 mil Body [PDIP]; Supplier 1: Digi-Key; Supplier Part Number 1: MCP2003-E/P-ND; Supplier 2: Farnell; Supplier Part Number 2: 1826236; Supplier 3: Newark; Supplier Part Number 3: 65R5492; Supplier 4: Mouser; Supplier Part Number 4: 579-MCP2003EP; Mounting Technology: Through Hole; Code_JEDEC: MS-001; ComponentLink1Description: Manufacturer URL; ComponentLink1URL: http://www.microchip.com/; ComponentLink2Description: Datasheet; ComponentLink2URL: http://ww1.microchip.com/downloads/en/DeviceDoc/22230D.pdf; ComponentLink3Description: Package Specification; ComponentLink3URL: http://www.microchip.com/stellent/groups/techpub_sg/documents/packagingspec/en012702.pdf
footprint PDIP300-P8 (DIP, 8-Leads, Row Spacing 7.62mm, Pitch 2.54mm, Body 9.5x6.6mm)
pins: 1 RXD (oc), 2 CS (in), 3 ~{WAKE} (in), 4 TXD (in), 5 VSS (power), 6 LBUS (io), 7 VBB (power), 8 VREN (out)

## MCP2003-E/SN
designator U?
LIN J2602 Transceiver, 8-Pin SOIC, Extended Temperature; Manufacturer: Microchip; PartNumber: MCP2003-E/SN; DatasheetVersion: revD, Dec-2011; PackageVersion: revBB, Aug-2009; PackageReference: SOIC-SN8; PackageDescription: 8-Lead Plastic Small Outline (SN) - Narrow, 3.90mm Body [SOIC]; Supplier 1: Digi-Key; Supplier Part Number 1: MCP2003-E/SN-ND; Supplier 2: Farnell; Supplier Part Number 2: 1826237; Supplier 3: Newark; Supplier Part Number 3: 65R5493; Supplier 4: Mouser; Supplier Part Number 4: 579-MCP2003ESN; Mounting Technology: Surface Mount; Code_JEDEC: MS-012; Code_IPC: SOIC127P600-8; ComponentLink1Description: Manufacturer URL; ComponentLink1URL: http://www.microchip.com/; ComponentLink2Description: Datasheet; ComponentLink2URL: http://ww1.microchip.com/downloads/en/DeviceDoc/22230D.pdf; ComponentLink3Description: Package Specification; ComponentLink3URL: http://www.microchip.com/stellent/groups/techpub_sg/documents/packagingspec/en012702.pdf
footprint SOIC-SN8_N (SOIC, 8-Leads, Body 4.9x3.8mm, Pitch 1.27mm, IPC Medium Density)
footprint SOIC-SN8_L (SOIC, 8-Leads, Body 4.9x3.8mm, Pitch 1.27mm, IPC High Density)
footprint SOIC-SN8_M (SOIC, 8-Leads, Body 4.9x3.8mm, Pitch 1.27mm, IPC Low Density)
pins: 1 RXD (oc), 2 CS (in), 3 ~{WAKE} (in), 4 TXD (in), 5 VSS (power), 6 LBUS (io), 7 VBB (power), 8 VREN (out)

## MCP2003A-E/MD
designator U?
LIN J2602 Transceiver, 8-Pin DFN, Extended Temperature; Manufacturer: Microchip; PartNumber: MCP2003A-E/MD; DatasheetVersion: revD, Dec-2011; PackageVersion: revBB, Aug-2009; PackageReference: DFN-MD8; PackageDescription: 8-Lead Plastic Dual Flat, No Lead Package (MD) - 4x4x0.9mm Body [DFN]; Supplier 1: Digi-Key; Supplier Part Number 1: MCP2003A-E/MD-ND; Supplier 2: Mouser; Supplier Part Number 2: 579-MCP2003AEMD; Mounting Technology: Surface Mount; ComponentLink1Description: Manufacturer URL; ComponentLink1URL: http://www.microchip.com/; ComponentLink2Description: Datasheet; ComponentLink2URL: http://ww1.microchip.com/downloads/en/DeviceDoc/22230D.pdf; ComponentLink3Description: Package Specification; ComponentLink3URL: http://www.microchip.com/stellent/groups/techpub_sg/documents/packagingspec/en012702.pdf
footprint DFN-MD8 (SON, 8-Leads, Body 4x4mm, Pitch 0.8mm, Microchip Recommended)
pins: 1 RXD (oc), 2 CS (in), 3 ~{WAKE} (in), 4 TXD (in), 5 VSS (power), 6 LBUS (io), 7 VBB (power), 8 VREN (out), 9 EP

## MCP2003A-E/P
designator U?
LIN J2602 Transceiver, 8-Pin PDIP, Extended Temperature; Manufacturer: Microchip; PartNumber: MCP2003A-E/P; DatasheetVersion: revD, Dec-2011; PackageVersion: revBB, Aug-2009; PackageReference: PDIP300-P8; PackageDescription: 8-Lead Plastic Dual In-Line (P) - 300 mil Body [PDIP]; Supplier 1: Digi-Key; Supplier Part Number 1: MCP2003A-E/P-ND; Supplier 2: Mouser; Supplier Part Number 2: 579-MCP2003AEP; Mounting Technology: Through Hole; Code_JEDEC: MS-001; ComponentLink1Description: Manufacturer URL; ComponentLink1URL: http://www.microchip.com/; ComponentLink2Description: Datasheet; ComponentLink2URL: http://ww1.microchip.com/downloads/en/DeviceDoc/22230D.pdf; ComponentLink3Description: Package Specification; ComponentLink3URL: http://www.microchip.com/stellent/groups/techpub_sg/documents/packagingspec/en012702.pdf
footprint PDIP300-P8 (DIP, 8-Leads, Row Spacing 7.62mm, Pitch 2.54mm, Body 9.5x6.6mm)
pins: 1 RXD (oc), 2 CS (in), 3 ~{WAKE} (in), 4 TXD (in), 5 VSS (power), 6 LBUS (io), 7 VBB (power), 8 VREN (out)

## MCP2003A-E/SN
designator U?
LIN J2602 Transceiver, 8-Pin SOIC, Extended Temperature; Manufacturer: Microchip; PartNumber: MCP2003A-E/SN; DatasheetVersion: revD, Dec-2011; PackageVersion: revBB, Aug-2009; PackageReference: SOIC-SN8; PackageDescription: 8-Lead Plastic Small Outline (SN) - Narrow, 3.90mm Body [SOIC]; Supplier 1: Digi-Key; Supplier Part Number 1: MCP2003A-E/SN-ND; Supplier 2: Farnell; Supplier Part Number 2: 2100263; Supplier 3: Newark; Supplier Part Number 3: 93T7730; Supplier 4: Newark; Supplier Part Number 4: 73T0676; Supplier 5: Mouser; Supplier Part Number 5: 579-MCP2003AESN; Mounting Technology: Surface Mount; Code_JEDEC: MS-012; Code_IPC: SOIC127P600-8; ComponentLink1Description: Manufacturer URL; ComponentLink1URL: http://www.microchip.com/; ComponentLink2Description: Datasheet; ComponentLink2URL: http://ww1.microchip.com/downloads/en/DeviceDoc/22230D.pdf; ComponentLink3Description: Package Specification; ComponentLink3URL: http://www.microchip.com/stellent/groups/techpub_sg/documents/packagingspec/en012702.pdf
footprint SOIC-SN8_N (SOIC, 8-Leads, Body 4.9x3.8mm, Pitch 1.27mm, IPC Medium Density)
footprint SOIC-SN8_L (SOIC, 8-Leads, Body 4.9x3.8mm, Pitch 1.27mm, IPC High Density)
footprint SOIC-SN8_M (SOIC, 8-Leads, Body 4.9x3.8mm, Pitch 1.27mm, IPC Low Density)
pins: 1 RXD (oc), 2 CS (in), 3 ~{WAKE} (in), 4 TXD (in), 5 VSS (power), 6 LBUS (io), 7 VBB (power), 8 VREN (out)

## MCP2003AT-E/MD
designator U?
LIN J2602 Transceiver, 8-Pin DFN, Extended Temperature, Tape and Reel; Manufacturer: Microchip; PartNumber: MCP2003AT-E/MD; DatasheetVersion: revD, Dec-2011; PackageVersion: revBB, Aug-2009; PackageReference: DFN-MD8; PackageDescription: 8-Lead Plastic Dual Flat, No Lead Package (MD) - 4x4x0.9mm Body [DFN]; Supplier 1: Digi-Key; Supplier Part Number 1: MCP2003AT-E/MD-ND; Supplier 2: Mouser; Supplier Part Number 2: 579-MCP2003ATEMD; Mounting Technology: Surface Mount; ComponentLink1Description: Manufacturer URL; ComponentLink1URL: http://www.microchip.com/; ComponentLink2Description: Datasheet; ComponentLink2URL: http://ww1.microchip.com/downloads/en/DeviceDoc/22230D.pdf; ComponentLink3Description: Package Specification; ComponentLink3URL: http://www.microchip.com/stellent/groups/techpub_sg/documents/packagingspec/en012702.pdf
footprint DFN-MD8 (SON, 8-Leads, Body 4x4mm, Pitch 0.8mm, Microchip Recommended)
pins: 1 RXD (oc), 2 CS (in), 3 ~{WAKE} (in), 4 TXD (in), 5 VSS (power), 6 LBUS (io), 7 VBB (power), 8 VREN (out), 9 EP

## MCP2003AT-E/SN
designator U?
LIN J2602 Transceiver, 8-Pin SOIC, Extended Temperature, Tape and Reel; Manufacturer: Microchip; PartNumber: MCP2003AT-E/SN; DatasheetVersion: revD, Dec-2011; PackageVersion: revBB, Aug-2009; PackageReference: SOIC-SN8; PackageDescription: 8-Lead Plastic Small Outline (SN) - Narrow, 3.90mm Body [SOIC]; Supplier 1: Digi-Key; Supplier Part Number 1: MCP2003AT-E/SN-ND; Supplier 2: Mouser; Supplier Part Number 2: 579-MCP2003ATESN; Mounting Technology: Surface Mount; Code_JEDEC: MS-012; Code_IPC: SOIC127P600-8; ComponentLink1Description: Manufacturer URL; ComponentLink1URL: http://www.microchip.com/; ComponentLink2Description: Datasheet; ComponentLink2URL: http://ww1.microchip.com/downloads/en/DeviceDoc/22230D.pdf; ComponentLink3Description: Package Specification; ComponentLink3URL: http://www.microchip.com/stellent/groups/techpub_sg/documents/packagingspec/en012702.pdf
footprint SOIC-SN8_N (SOIC, 8-Leads, Body 4.9x3.8mm, Pitch 1.27mm, IPC Medium Density)
footprint SOIC-SN8_L (SOIC, 8-Leads, Body 4.9x3.8mm, Pitch 1.27mm, IPC High Density)
footprint SOIC-SN8_M (SOIC, 8-Leads, Body 4.9x3.8mm, Pitch 1.27mm, IPC Low Density)
pins: 1 RXD (oc), 2 CS (in), 3 ~{WAKE} (in), 4 TXD (in), 5 VSS (power), 6 LBUS (io), 7 VBB (power), 8 VREN (out)

## MCP2003T-E/MD
designator U?
LIN J2602 Transceiver, 8-Pin DFN, Extended Temperature, Tape and Reel; Manufacturer: Microchip; PartNumber: MCP2003T-E/MD; DatasheetVersion: revD, Dec-2011; PackageVersion: revBB, Aug-2009; PackageReference: DFN-MD8; PackageDescription: 8-Lead Plastic Dual Flat, No Lead Package (MD) - 4x4x0.9mm Body [DFN]; Supplier 1: Digi-Key; Supplier Part Number 1: MCP2003T-E/MD-ND; Supplier 2: Mouser; Supplier Part Number 2: 579-MCP2003TEMD; Mounting Technology: Surface Mount; ComponentLink1Description: Manufacturer URL; ComponentLink1URL: http://www.microchip.com/; ComponentLink2Description: Datasheet; ComponentLink2URL: http://ww1.microchip.com/downloads/en/DeviceDoc/22230D.pdf; ComponentLink3Description: Package Specification; ComponentLink3URL: http://www.microchip.com/stellent/groups/techpub_sg/documents/packagingspec/en012702.pdf
footprint DFN-MD8 (SON, 8-Leads, Body 4x4mm, Pitch 0.8mm, Microchip Recommended)
pins: 1 RXD (oc), 2 CS (in), 3 ~{WAKE} (in), 4 TXD (in), 5 VSS (power), 6 LBUS (io), 7 VBB (power), 8 VREN (out), 9 EP

## MCP2003T-E/SN
designator U?
LIN J2602 Transceiver, 8-Pin SOIC, Extended Temperature, Tape and Reel; Manufacturer: Microchip; PartNumber: MCP2003T-E/SN; DatasheetVersion: revD, Dec-2011; PackageVersion: revBB, Aug-2009; PackageReference: SOIC-SN8; PackageDescription: 8-Lead Plastic Small Outline (SN) - Narrow, 3.90mm Body [SOIC]; Supplier 1: Digi-Key; Supplier Part Number 1: MCP2003T-E/SN-ND; Supplier 2: Newark; Supplier Part Number 2: 65R5495; Supplier 3: Mouser; Supplier Part Number 3: 579-MCP2003TESN; Mounting Technology: Surface Mount; Code_JEDEC: MS-012; Code_IPC: SOIC127P600-8; ComponentLink1Description: Manufacturer URL; ComponentLink1URL: http://www.microchip.com/; ComponentLink2Description: Datasheet; ComponentLink2URL: http://ww1.microchip.com/downloads/en/DeviceDoc/22230D.pdf; ComponentLink3Description: Package Specification; ComponentLink3URL: http://www.microchip.com/stellent/groups/techpub_sg/documents/packagingspec/en012702.pdf
footprint SOIC-SN8_N (SOIC, 8-Leads, Body 4.9x3.8mm, Pitch 1.27mm, IPC Medium Density)
footprint SOIC-SN8_L (SOIC, 8-Leads, Body 4.9x3.8mm, Pitch 1.27mm, IPC High Density)
footprint SOIC-SN8_M (SOIC, 8-Leads, Body 4.9x3.8mm, Pitch 1.27mm, IPC Low Density)
pins: 1 RXD (oc), 2 CS (in), 3 ~{WAKE} (in), 4 TXD (in), 5 VSS (power), 6 LBUS (io), 7 VBB (power), 8 VREN (out)

## MCP2004-E/MD
designator U?
LIN J2602 Transceiver, 8-Pin DFN, Extended Temperature; Manufacturer: Microchip; PartNumber: MCP2004-E/MD; DatasheetVersion: revD, Dec-2011; PackageVersion: revBB, Aug-2009; PackageReference: DFN-MD8; PackageDescription: 8-Lead Plastic Dual Flat, No Lead Package (MD) - 4x4x0.9mm Body [DFN]; Supplier 1: Digi-Key; Supplier Part Number 1: MCP2004-E/MD-ND; Supplier 2: Mouser; Supplier Part Number 2: 579-MCP2004EMD; Mounting Technology: Surface Mount; ComponentLink1Description: Manufacturer URL; ComponentLink1URL: http://www.microchip.com/; ComponentLink2Description: Datasheet; ComponentLink2URL: http://ww1.microchip.com/downloads/en/DeviceDoc/22230D.pdf; ComponentLink3Description: Package Specification; ComponentLink3URL: http://www.microchip.com/stellent/groups/techpub_sg/documents/packagingspec/en012702.pdf
footprint DFN-MD8 (SON, 8-Leads, Body 4x4mm, Pitch 0.8mm, Microchip Recommended)
pins: 1 RXD (oc), 2 CS/WAKE (in), 3 ~{FAULT}/TXE (io), 4 TXD (in), 5 VSS (power), 6 LBUS (io), 7 VBB (power), 8 VREN (out), 9 EP

## MCP2004-E/P
designator U?
LIN J2602 Transceiver, 8-Pin PDIP, Extended Temperature; Manufacturer: Microchip; PartNumber: MCP2004-E/P; DatasheetVersion: revD, Dec-2011; PackageVersion: revBB, Aug-2009; PackageReference: PDIP300-P8; PackageDescription: 8-Lead Plastic Dual In-Line (P) - 300 mil Body [PDIP]; Supplier 1: Digi-Key; Supplier Part Number 1: MCP2004-E/P-ND; Supplier 2: Mouser; Supplier Part Number 2: 579-MCP2004EP; Mounting Technology: Through Hole; Code_JEDEC: MS-001; ComponentLink1Description: Manufacturer URL; ComponentLink1URL: http://www.microchip.com/; ComponentLink2Description: Datasheet; ComponentLink2URL: http://ww1.microchip.com/downloads/en/DeviceDoc/22230D.pdf; ComponentLink3Description: Package Specification; ComponentLink3URL: http://www.microchip.com/stellent/groups/techpub_sg/documents/packagingspec/en012702.pdf
footprint PDIP300-P8 (DIP, 8-Leads, Row Spacing 7.62mm, Pitch 2.54mm, Body 9.5x6.6mm)
pins: 1 RXD (oc), 2 CS/WAKE (in), 3 ~{FAULT}/TXE (io), 4 TXD (in), 5 VSS (power), 6 LBUS (io), 7 VBB (power), 8 VREN (out)

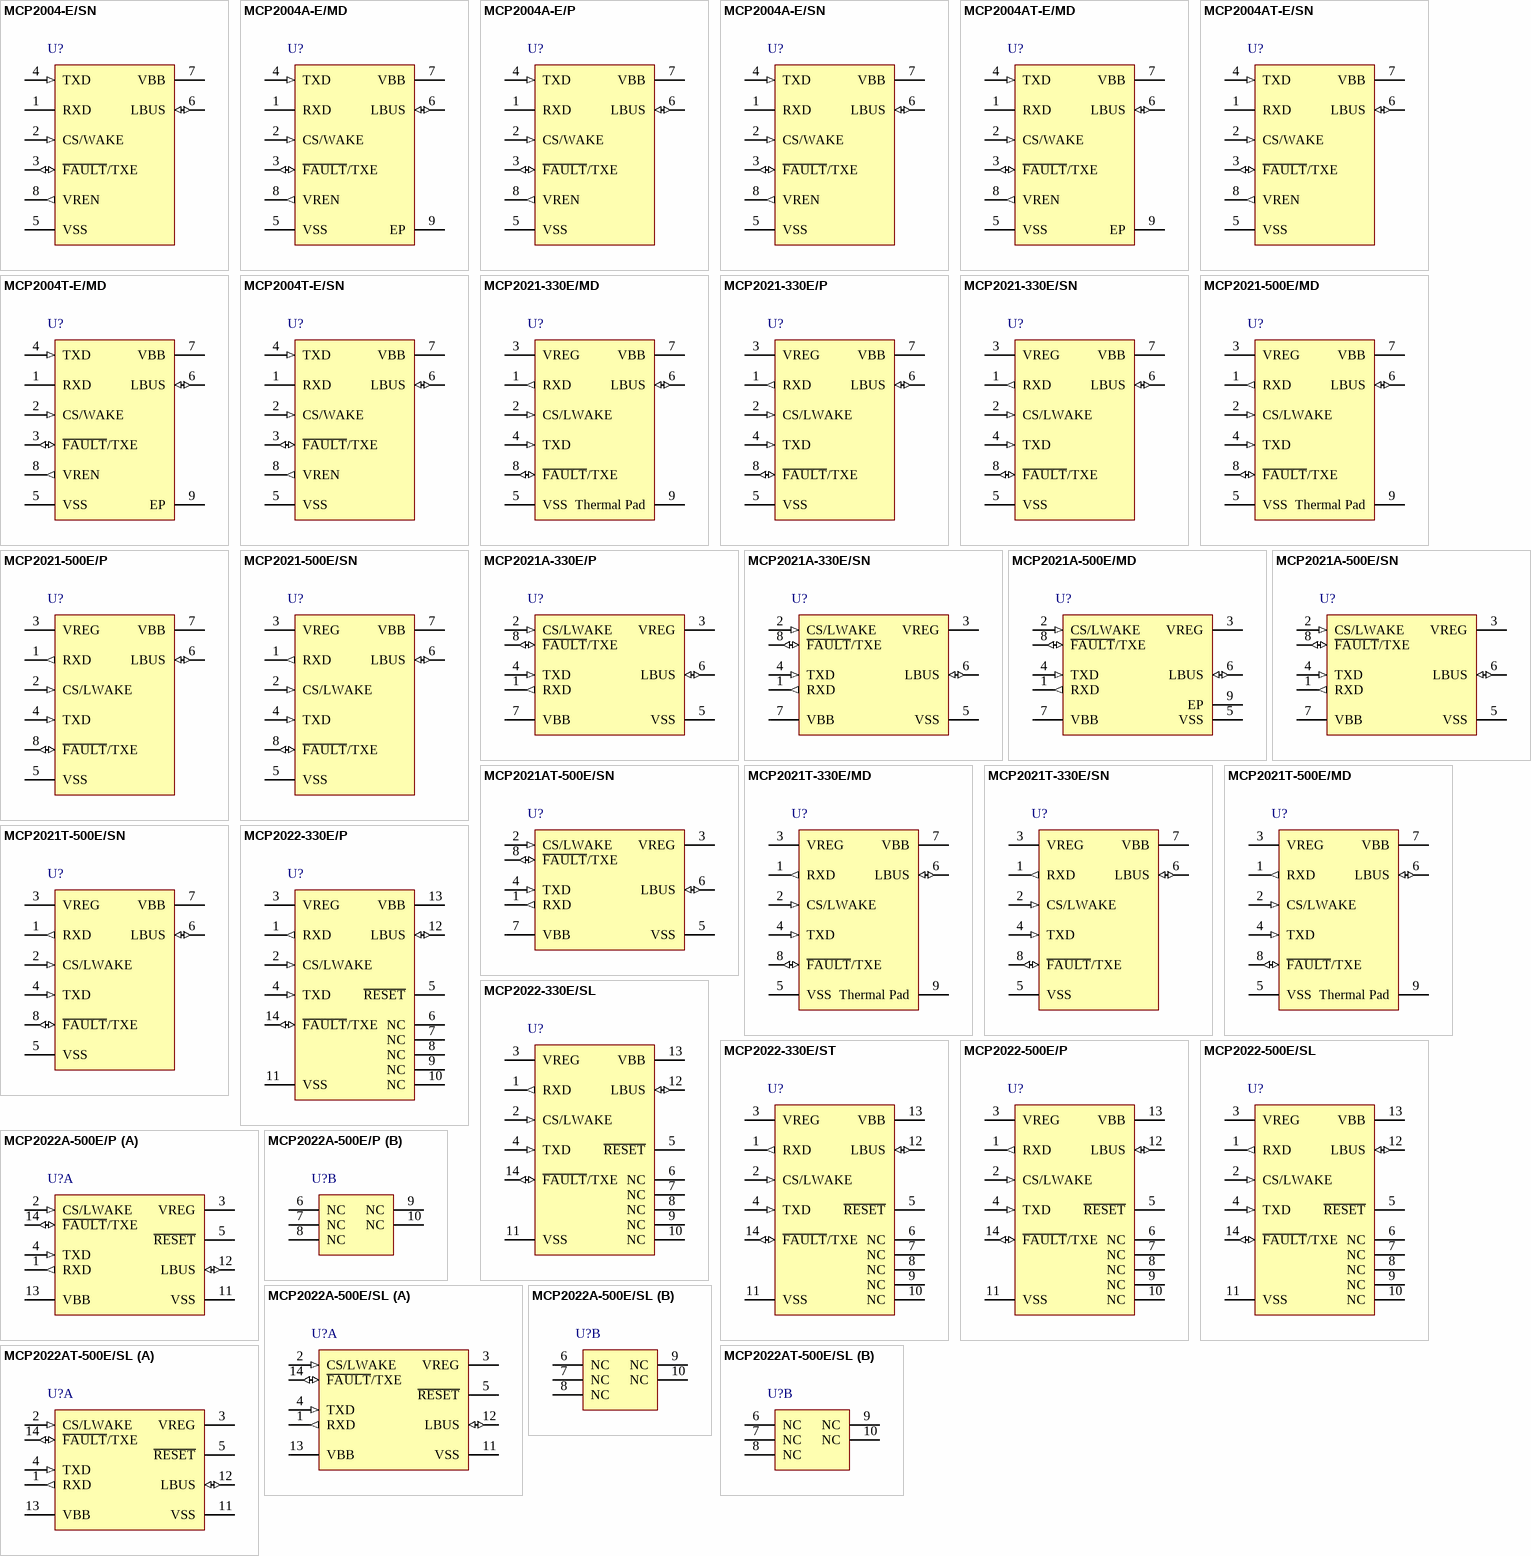
[diagram p5: symbols MCP2004-E/SN to MCP2022AT-500E/SL]

## MCP2004-E/SN
designator U?
LIN J2602 Transceiver, 8-Pin SOIC, Extended Temperature; Manufacturer: Microchip; PartNumber: MCP2004-E/SN; DatasheetVersion: revD, Dec-2011; PackageVersion: revBB, Aug-2009; PackageReference: SOIC-SN8; PackageDescription: 8-Lead Plastic Small Outline (SN) - Narrow, 3.90mm Body [SOIC]; Supplier 1: Digi-Key; Supplier Part Number 1: MCP2004-E/SN-ND; Supplier 2: Mouser; Supplier Part Number 2: 579-MCP2004ESN; Mounting Technology: Surface Mount; Code_JEDEC: MS-012; Code_IPC: SOIC127P600-8; ComponentLink1Description: Manufacturer URL; ComponentLink1URL: http://www.microchip.com/; ComponentLink2Description: Datasheet; ComponentLink2URL: http://ww1.microchip.com/downloads/en/DeviceDoc/22230D.pdf; ComponentLink3Description: Package Specification; ComponentLink3URL: http://www.microchip.com/stellent/groups/techpub_sg/documents/packagingspec/en012702.pdf
footprint SOIC-SN8_N (SOIC, 8-Leads, Body 4.9x3.8mm, Pitch 1.27mm, IPC Medium Density)
footprint SOIC-SN8_L (SOIC, 8-Leads, Body 4.9x3.8mm, Pitch 1.27mm, IPC High Density)
footprint SOIC-SN8_M (SOIC, 8-Leads, Body 4.9x3.8mm, Pitch 1.27mm, IPC Low Density)
pins: 1 RXD (oc), 2 CS/WAKE (in), 3 ~{FAULT}/TXE (io), 4 TXD (in), 5 VSS (power), 6 LBUS (io), 7 VBB (power), 8 VREN (out)

## MCP2004A-E/MD
designator U?
LIN J2602 Transceiver, 8-Pin DFN, Extended Temperature; Manufacturer: Microchip; PartNumber: MCP2004A-E/MD; DatasheetVersion: revD, Dec-2011; PackageVersion: revBB, Aug-2009; PackageReference: DFN-MD8; PackageDescription: 8-Lead Plastic Dual Flat, No Lead Package (MD) - 4x4x0.9mm Body [DFN]; Supplier 1: Digi-Key; Supplier Part Number 1: MCP2004A-E/MD-ND; Supplier 2: Mouser; Supplier Part Number 2: 579-MCP2004AEMD; Mounting Technology: Surface Mount; ComponentLink1Description: Manufacturer URL; ComponentLink1URL: http://www.microchip.com/; ComponentLink2Description: Datasheet; ComponentLink2URL: http://ww1.microchip.com/downloads/en/DeviceDoc/22230D.pdf; ComponentLink3Description: Package Specification; ComponentLink3URL: http://www.microchip.com/stellent/groups/techpub_sg/documents/packagingspec/en012702.pdf
footprint DFN-MD8 (SON, 8-Leads, Body 4x4mm, Pitch 0.8mm, Microchip Recommended)
pins: 1 RXD (oc), 2 CS/WAKE (in), 3 ~{FAULT}/TXE (io), 4 TXD (in), 5 VSS (power), 6 LBUS (io), 7 VBB (power), 8 VREN (out), 9 EP

## MCP2004A-E/P
designator U?
LIN J2602 Transceiver, 8-Pin PDIP, Extended Temperature; Manufacturer: Microchip; PartNumber: MCP2004A-E/P; DatasheetVersion: revD, Dec-2011; PackageVersion: revBB, Aug-2009; PackageReference: PDIP300-P8; PackageDescription: 8-Lead Plastic Dual In-Line (P) - 300 mil Body [PDIP]; Supplier 1: Digi-Key; Supplier Part Number 1: MCP2004A-E/P-ND; Supplier 2: Mouser; Supplier Part Number 2: 579-MCP2004AEP; Mounting Technology: Through Hole; Code_JEDEC: MS-001; ComponentLink1Description: Manufacturer URL; ComponentLink1URL: http://www.microchip.com/; ComponentLink2Description: Datasheet; ComponentLink2URL: http://ww1.microchip.com/downloads/en/DeviceDoc/22230D.pdf; ComponentLink3Description: Package Specification; ComponentLink3URL: http://www.microchip.com/stellent/groups/techpub_sg/documents/packagingspec/en012702.pdf
footprint PDIP300-P8 (DIP, 8-Leads, Row Spacing 7.62mm, Pitch 2.54mm, Body 9.5x6.6mm)
pins: 1 RXD (oc), 2 CS/WAKE (in), 3 ~{FAULT}/TXE (io), 4 TXD (in), 5 VSS (power), 6 LBUS (io), 7 VBB (power), 8 VREN (out)

## MCP2004A-E/SN
designator U?
LIN J2602 Transceiver, 8-Pin SOIC, Extended Temperature; Manufacturer: Microchip; PartNumber: MCP2004A-E/SN; DatasheetVersion: revD, Dec-2011; PackageVersion: revBB, Aug-2009; PackageReference: SOIC-SN8; PackageDescription: 8-Lead Plastic Small Outline (SN) - Narrow, 3.90mm Body [SOIC]; Supplier 1: Digi-Key; Supplier Part Number 1: MCP2004A-E/SN-ND; Supplier 2: Newark; Supplier Part Number 2: 73T0681; Supplier 3: Mouser; Supplier Part Number 3: 579-MCP2004AESN; Mounting Technology: Surface Mount; Code_JEDEC: MS-012; Code_IPC: SOIC127P600-8; ComponentLink1Description: Manufacturer URL; ComponentLink1URL: http://www.microchip.com/; ComponentLink2Description: Datasheet; ComponentLink2URL: http://ww1.microchip.com/downloads/en/DeviceDoc/22230D.pdf; ComponentLink3Description: Package Specification; ComponentLink3URL: http://www.microchip.com/stellent/groups/techpub_sg/documents/packagingspec/en012702.pdf
footprint SOIC-SN8_N (SOIC, 8-Leads, Body 4.9x3.8mm, Pitch 1.27mm, IPC Medium Density)
footprint SOIC-SN8_L (SOIC, 8-Leads, Body 4.9x3.8mm, Pitch 1.27mm, IPC High Density)
footprint SOIC-SN8_M (SOIC, 8-Leads, Body 4.9x3.8mm, Pitch 1.27mm, IPC Low Density)
pins: 1 RXD (oc), 2 CS/WAKE (in), 3 ~{FAULT}/TXE (io), 4 TXD (in), 5 VSS (power), 6 LBUS (io), 7 VBB (power), 8 VREN (out)

## MCP2004AT-E/MD
designator U?
LIN J2602 Transceiver, 8-Pin DFN, Extended Temperature, Tape and Reel; Manufacturer: Microchip; PartNumber: MCP2004AT-E/MD; DatasheetVersion: revD, Dec-2011; PackageVersion: revBB, Aug-2009; PackageReference: DFN-MD8; PackageDescription: 8-Lead Plastic Dual Flat, No Lead Package (MD) - 4x4x0.9mm Body [DFN]; Supplier 1: Digi-Key; Supplier Part Number 1: MCP2004AT-E/MD-ND; Supplier 2: Mouser; Supplier Part Number 2: 579-MCP2004ATEMD; Mounting Technology: Surface Mount; ComponentLink1Description: Manufacturer URL; ComponentLink1URL: http://www.microchip.com/; ComponentLink2Description: Datasheet; ComponentLink2URL: http://ww1.microchip.com/downloads/en/DeviceDoc/22230D.pdf; ComponentLink3Description: Package Specification; ComponentLink3URL: http://www.microchip.com/stellent/groups/techpub_sg/documents/packagingspec/en012702.pdf
footprint DFN-MD8 (SON, 8-Leads, Body 4x4mm, Pitch 0.8mm, Microchip Recommended)
pins: 1 RXD (oc), 2 CS/WAKE (in), 3 ~{FAULT}/TXE (io), 4 TXD (in), 5 VSS (power), 6 LBUS (io), 7 VBB (power), 8 VREN (out), 9 EP

## MCP2004AT-E/SN
designator U?
LIN J2602 Transceiver, 8-Pin SOIC, Extended Temperature, Tape and Reel; Manufacturer: Microchip; PartNumber: MCP2004AT-E/SN; DatasheetVersion: revD, Dec-2011; PackageVersion: revBB, Aug-2009; PackageReference: SOIC-SN8; PackageDescription: 8-Lead Plastic Small Outline (SN) - Narrow, 3.90mm Body [SOIC]; Supplier 1: Digi-Key; Supplier Part Number 1: MCP2004AT-E/SN-ND; Supplier 2: Newark; Supplier Part Number 2: 73T0683; Supplier 3: Mouser; Supplier Part Number 3: 579-MCP2004ATESN; Mounting Technology: Surface Mount; Code_JEDEC: MS-012; Code_IPC: SOIC127P600-8; ComponentLink1Description: Manufacturer URL; ComponentLink1URL: http://www.microchip.com/; ComponentLink2Description: Datasheet; ComponentLink2URL: http://ww1.microchip.com/downloads/en/DeviceDoc/22230D.pdf; ComponentLink3Description: Package Specification; ComponentLink3URL: http://www.microchip.com/stellent/groups/techpub_sg/documents/packagingspec/en012702.pdf
footprint SOIC-SN8_N (SOIC, 8-Leads, Body 4.9x3.8mm, Pitch 1.27mm, IPC Medium Density)
footprint SOIC-SN8_L (SOIC, 8-Leads, Body 4.9x3.8mm, Pitch 1.27mm, IPC High Density)
footprint SOIC-SN8_M (SOIC, 8-Leads, Body 4.9x3.8mm, Pitch 1.27mm, IPC Low Density)
pins: 1 RXD (oc), 2 CS/WAKE (in), 3 ~{FAULT}/TXE (io), 4 TXD (in), 5 VSS (power), 6 LBUS (io), 7 VBB (power), 8 VREN (out)

## MCP2004T-E/MD
designator U?
LIN J2602 Transceiver, 8-Pin DFN, Extended Temperature, Tape and Reel; Manufacturer: Microchip; PartNumber: MCP2004T-E/MD; DatasheetVersion: revD, Dec-2011; PackageVersion: revBB, Aug-2009; PackageReference: DFN-MD8; PackageDescription: 8-Lead Plastic Dual Flat, No Lead Package (MD) - 4x4x0.9mm Body [DFN]; Supplier 1: Digi-Key; Supplier Part Number 1: MCP2004T-E/MD-ND; Supplier 2: Mouser; Supplier Part Number 2: 579-MCP2004TEMD; Mounting Technology: Surface Mount; ComponentLink1Description: Manufacturer URL; ComponentLink1URL: http://www.microchip.com/; ComponentLink2Description: Datasheet; ComponentLink2URL: http://ww1.microchip.com/downloads/en/DeviceDoc/22230D.pdf; ComponentLink3Description: Package Specification; ComponentLink3URL: http://www.microchip.com/stellent/groups/techpub_sg/documents/packagingspec/en012702.pdf
footprint DFN-MD8 (SON, 8-Leads, Body 4x4mm, Pitch 0.8mm, Microchip Recommended)
pins: 1 RXD (oc), 2 CS/WAKE (in), 3 ~{FAULT}/TXE (io), 4 TXD (in), 5 VSS (power), 6 LBUS (io), 7 VBB (power), 8 VREN (out), 9 EP